# EAGLE library part RVA-33 (library rf-jqi)
VC-attenuator, -40 dB, 1-16V
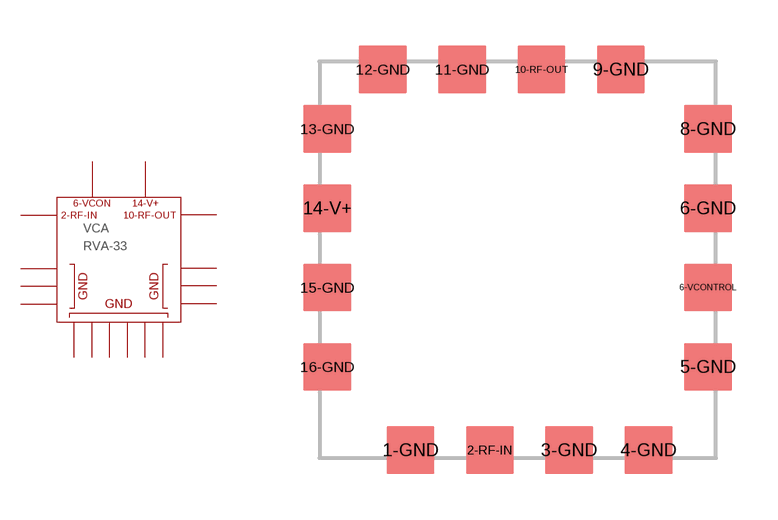
[diagram p8: symbol with the pads of DV874; footprint DV874]

Designator prefix VCA

## RVA-33  [DV874]
1-GND  1-GND  sup
2-RF-IN  2-RF-IN  in
3-GND  3-GND  sup
4-GND  6-VCONTROL  in
5-GND  10-RF-OUT  out
6-GND  14-V+  pwr
6-VCONTROL  P$3
8-GND  P$4
9-GND  P$5
10-RF-OUT  P$6
11-GND  P$7
12-GND  P$8
13-GND  P$9
14-V+  P$10
15-GND  P$11
16-GND  P$12

## Footprint DV874 (pad centres in mm)
smd 1.524 x 1.524: 1-GND -3.429,-6.096; 2-RF-IN -0.889,-6.096; 3-GND 1.651,-6.096; 4-GND 4.191,-6.096; 5-GND 6.096,-3.429; 6-GND 6.096,1.651; 6-VCONTROL 6.096,-0.889; 8-GND 6.096,4.191; 9-GND 3.302,6.096; 10-RF-OUT 0.762,6.096; 11-GND -1.778,6.096; 12-GND -4.318,6.096; 13-GND -6.096,4.191; 14-V+ -6.096,1.651; 15-GND -6.096,-0.889; 16-GND -6.096,-3.429